# Altium footprint library PcbLib1.PcbLib: 37 footprints (part 1 of 3)
Each footprint in its own frame and in the unit in brackets; x right, y up, seen from the top. Pads: shape width x height; smd on the part's side, far side on the other; paste and mask are expansions set on the pad; w line width, h text height; cw(c..) or ccw(c..) is an arc to the next point about the centre after c.
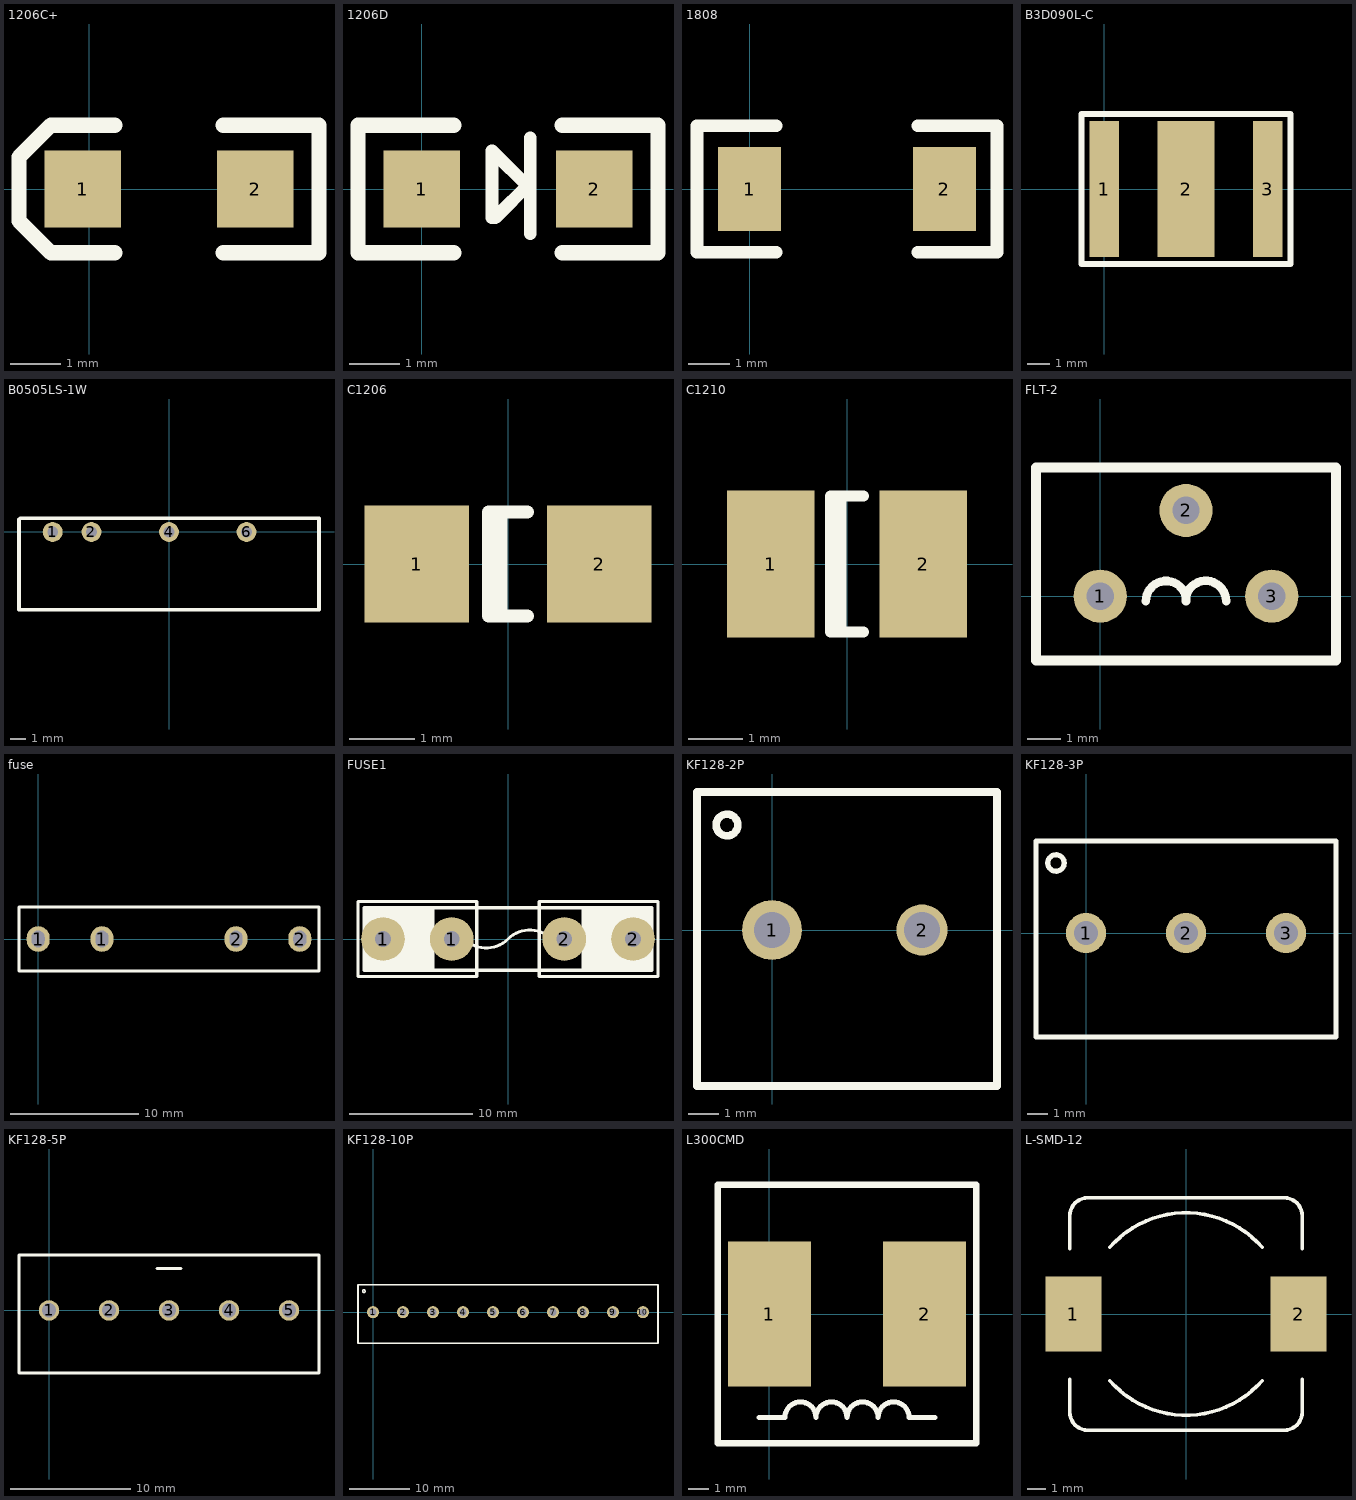
[diagram p0: the footprints below, top view; thin cyan lines are the x and y axes]

## 1206C+ [mil]
pads (2):
  rect 60x60 smd: 1(-5,0) 2(130,0)
Top Overlay:
  lines w12: 20,-50 -30,-50 -55,-25 -55,25 -30,50 20,50 ; 105,-50 180,-50 180,50 105,50

## 1206D [mil]
pads (2):
  rect 60x60 smd: 1(0,0) 2(135,0)
Top Overlay:
  lines w10: 55,-22.5 55,30 85,0 ; 57.5,-22.5 85,5 ; 85,-35 85,40
  lines w12: 25,-50 -50,-50 -50,50 25,50 ; 110,-50 185,-50 185,50 110,50

## 1808 [mil]
pads (2):
  rect 60x80 smd: 1(0,0) 2(185,0)
Top Overlay:
  lines w12: 25,-60 -50,-60 -50,60 25,60 ; 160,-60 235,-60 235,60 160,60

## B3D090L-C [mm]
pads (3):
  rect 1.3x6 smd: 1(0,0) 3(7.2,0)
  rect 2.5x6 smd: 2(3.6,0)
Top Overlay:
  lines w0.254: -1,-3.3 -1,3.3 8.2,3.3 8.2,-3.3 -1,-3.3

## B0505LS-1W [mm]
pads (4):
  round 1.3 hole 0.7: 1(-7.62,0) 2(-5.08,0) 4(0,0) 6(5.08,0)
Top Overlay:
  lines w0.254: -9.825,-5.1 9.825,-5.1 9.825,0.9 -9.728,0.9 -9.825,0.803 -9.825,-5.029

## C1206 [mm] "Chip Capacitor; Body 3.2 x 1.6 mm (LxW typ)"
height 1.35
pads (2):
  rect 1.6x1.8 smd: 1(-1.4,0) 2(1.4,0)
Top Overlay:
  lines w0.2: -0.11,-0.8 -0.11,0.8 ; 0.3,-0.8 -0.3,-0.8 -0.3,0.8 0.3,0.8

## C1210 [mm] "Chip Capacitor; Body 3.2 x 2.5 mm (LxW typ)"
height 1.35
pads (2):
  rect 1.6x2.7 smd: 1(-1.4,0) 2(1.4,0)
Top Overlay:
  lines w0.2: -0.11,-1.25 -0.11,1.25 ; 0.3,-1.25 -0.3,-1.25 -0.3,1.25 0.3,1.25

## FLT-2 [mil]
pads (3):
  round 62 hole 32: 1(0,0) 2(100,100) 3(200,0)
Top Overlay:
  lines w10: 53.15,-5.91 cw(c76.77,-5.91) 100.39,-5.91 ; 99.47,-5.68 cw(c123.1,-5.68) 146.72,-5.68
  lines w12: -75,-75 275,-75 275,150 -75,150 -75,-75

## fuse [mm]
pads (4):
  oval 1.8x2 hole 1 slot 1.3 at 90 deg: 1(0,0) 1(5,0) 2(15.5,0) 2(20.5,0)
Top Overlay:
  lines w0.254: -1.5,-2.5 -1.5,2.5 22,2.5 22,-2.5 -1.5,-2.5

## FUSE1 [mil]
pads (4):
  round 140 hole 50: 1(-400,0) 1(-180,0) 2(180,0) 2(400,0)
Top Overlay:
  rectangle: 240,-100 460,100
  rectangle: -460,-100 -240,100
  lines w10: -240,-100 -240,100 ; -140,0 ccw(c-70,70) 0,0 cw(c70,-70) 140,0 ; 240,-100 240,100 ; -480,-120 -100,-120 -100,120 -480,120 -480,0 -480,-120 ; -460,-100 -460,100 440,100 460,100 460,-100 -460,-100 ; 100,-120 480,-120 480,120 100,120 100,-120

## KF128-2P [mm]
pads (2):
  round 2 hole 1.2: 1(0,0)
  round 1.7 hole 1.2: 2(5,0)
Top Overlay:
  circle w0.254: c-1.5,3.5 r0.361
  lines w0.254: -2.5,-5.2 7.5,-5.2 7.5,4.6 -2.5,4.6 -2.5,-5.2

## KF128-3P [mm]
pads (3):
  round 2 hole 1.2: 1(0,0) 2(5,0) 3(10,0)
Top Overlay:
  circle w0.254: c-1.5,3.5 r0.412
  lines w0.254: -2.5,-5.2 12.5,-5.2 12.5,4.6 -2.5,4.6 -2.5,-5.2

## KF128-5P [mm]
pads (5):
  round 1.7 hole 1.2: 1(0,0) 2(5,0) 3(10,0) 4(15,0) 5(20,0)
Top Overlay:
  lines w0.254: 9,3.5 11,3.5 ; -2.5,-5.2 -2.5,4.6 22.5,4.6 22.5,-5.2 -2.5,-5.2

## KF128-10P [mm]
pads (10):
  round 2 hole 1.2: 1(0,0) 2(5,0) 3(10,0) 4(15,0) 5(20,0) 6(25,0) 7(30,0) 8(35,0) 9(40,0) 10(45,0)
Top Overlay:
  circle w0.254: c-1.524,3.5 r0.224
  lines w0.254: -2.5,-5.2 47.5,-5.2 47.5,4.6 -2.5,4.6 -2.5,-5.2

## L300CMD [mil]
pads (2):
  rect 160x280 smd: 1(0,0) 2(300,0)
Top Overlay:
  lines w10: -20,-200 30,-200 cw(c60,-200) 60,-170 cw(c60,-200) 90,-200 cw(c120,-200) 120,-170 cw(c120,-200) 150,-200 cw(c180,-200) 180,-170 cw(c180,-200) 210,-200 cw(c240,-200) 240,-170 cw(c240,-200) 270,-200 320,-200
  lines w12: -100,-250 400,-250 400,250 -100,250 -100,0 -100,-250
3D body: height 179.13, standoff 0, extent -2.22,-143 290.22,144.4

## L-SMD-12 [mm] "贴片电感12*12"
height 4
pads (2):
  rect 3x4 smd: 1(-6,0) 2(6,0)
Top Overlay:
  lines w0.2: -6.2,-3.475 -6.2,-5.23 ccw(c-5.23,-5.23) -5.23,-6.2 5.23,-6.2 ccw(c5.23,-5.23) 6.2,-5.23 6.2,-3.475 ; -6.2,3.475 -6.2,5.23 cw(c-5.23,5.23) -5.23,6.2 5.23,6.2 cw(c5.23,5.23) 6.2,5.23 6.2,3.475 ; -4.064,-3.556 ccw(c0,0) 4.064,-3.556 ; -4.064,3.556 cw(c0,0) 4.064,3.556
3D body: height 0.6, standoff 0, extent -6.207,-6.233 6.207,6.182
3D body: height 2.5, standoff 0.3, extent -5.273,-5.303 5.315,5.29